# Altium footprint library NTCLE213E3104FXB0.PcbLib: 1 footprints
Each footprint in its own frame and in the unit in brackets; x right, y up, seen from the top. Pads: shape width x height; smd on the part's side, far side on the other; paste and mask are expansions set on the pad; w line width, h text height; cw(c..) or ccw(c..) is an arc to the next point about the centre after c.
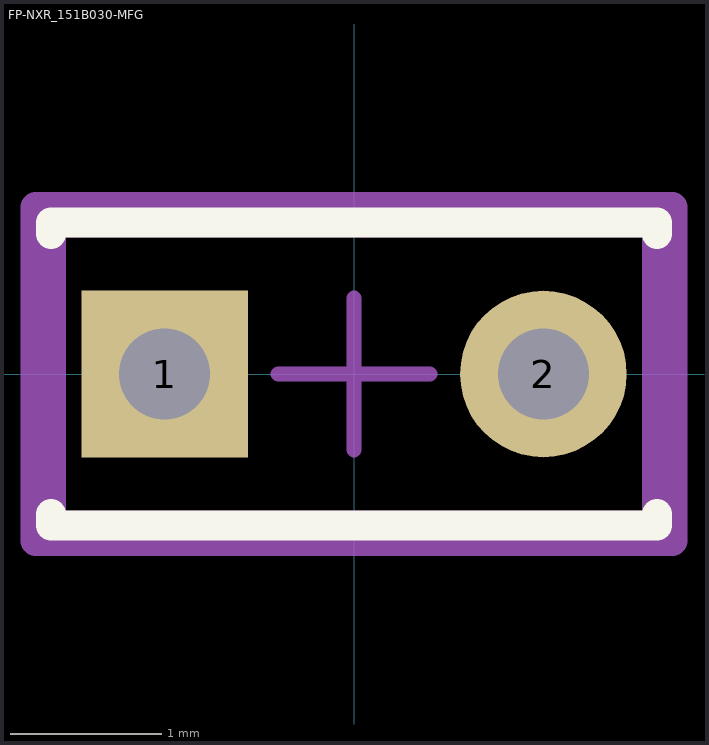
[diagram p0: the footprint, top view; thin cyan lines are the x and y axes]

## FP-NXR_151B030-MFG [mm] "NTCLE213E3104FXB0 Free Hanging Bead Thermistor"
height 2.54
pads (2):
  rect 1.1x1.1 hole 0.6 paste-1000 mask+0: 1(-1.25,0)
  round 1.1 hole 0.6 paste-1000 mask+0: 2(1.25,0)
Top Overlay:
  lines w0.2: -2,-0.925 -2,-1 2,-1 2,-0.925 ; -2,0.925 -2,1 2,1 2,0.925
Mechanical 5:
  lines w0.2: -2.1,-1.1 -2.1,1.1 2.1,1.1 2.1,-1.1 -2.1,-1.1
  text ".Designator" at 0,0.188 h1
Mechanical 13:
  lines w0.2: -2,-1 -2,1 2,1 2,-1 -2,-1
Mechanical 15:
  lines w0.2: -2.1,-1.1 -2.1,1.1 2.1,1.1 2.1,-1.1 -2.1,-1.1
Mechanical 16:
  lines w0.1: -0.5,0 0.5,0 ; 0,-0.5 0,0.5
3D body "ntcle213e3104fxt1.stp": height 14.46, standoff -26.54, extent -1.47,-1.249 1.47,1.25